# Altium footprint library CAPPRD750W80D1600H2700.PcbLib: 1 footprints
Each footprint in its own frame and in the unit in brackets; x right, y up, seen from the top. Pads: shape width x height; smd on the part's side, far side on the other; paste and mask are expansions set on the pad; w line width, h text height; cw(c..) or ccw(c..) is an arc to the next point about the centre after c.
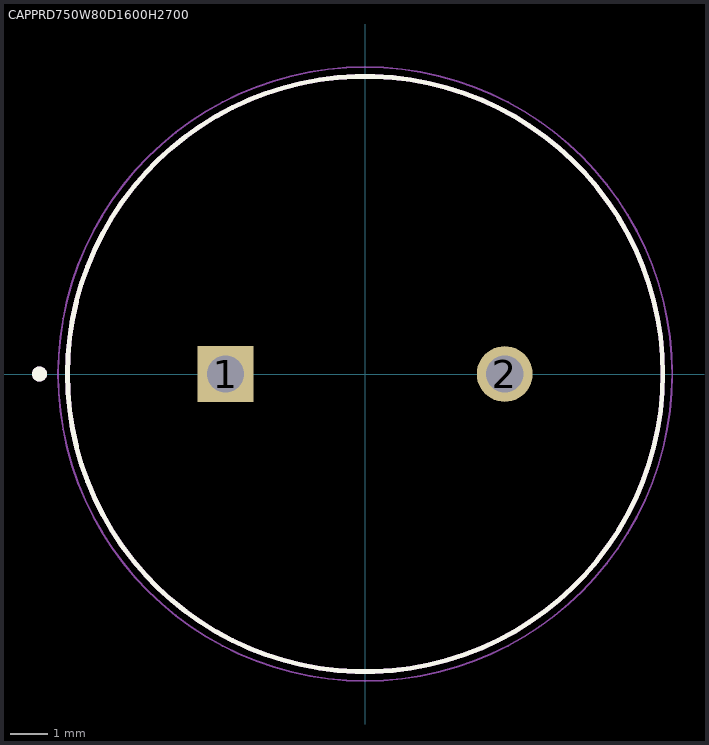
[diagram p0: the footprint, top view; thin cyan lines are the x and y axes]

## CAPPRD750W80D1600H2700 [mm]
pads (2):
  rect 1.5x1.5 hole 1: 1(-3.75,0)
  round 1.5 hole 1: 2(3.75,0)
Top Overlay:
  circle w0.127: c0,0 r8
  circle w0.2: c-8.75,0 r0.1
Mechanical 13:
  circle w0.127: c0,0 r8
  circle w0.2: c-8.75,0 r0.1
Mechanical 15:
  circle w0.05: c0,0 r8.25